# Altium schematic symbol library TPD4E001.SchLib: 1 symbol
Pins are listed as number, name and electrical type; pins without a type are passive.

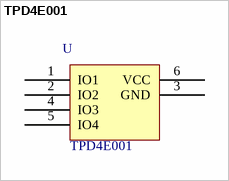
[diagram p0: symbol TPD4E001]

## TPD4E001
designator U  value TPD4E001  (hidden comment: *)
Manufacturer: Texas Instruments; Manufacturer Code: TPD4E001DCKR; Farnell Code: 2335453; Unit Price: 0,42 €
footprint SOT23-6
pins: 1 IO1, 2 IO2, 3 GND, 4 IO3, 5 IO4, 6 VCC